# EAGLE library part ARD_ANALOG (library EnigmaMon)
Arduino Analog Pins Pin-header for Arduino analog I/O pins
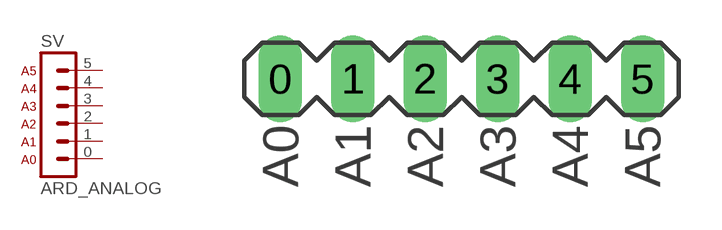
[diagram p0: symbol with the pads of ARD_ANALOG; footprint ARD_ANALOG]

Designator prefix SV

## ARD_ANALOG  [ARD_ANALOG]
0  1  pas
1  2  pas
2  3  pas
3  4  pas
4  5  pas
5  6  pas

## Footprint ARD_ANALOG (pad centres in mm)
Arduino Analog Pins
drill 1.016 long: 0 -6.35,0; 1 -3.81,0; 2 -1.27,0; 3 1.27,0; 4 3.81,0; 5 6.35,0